# EAGLE library part ECM-B137 (library subieduino-lib)
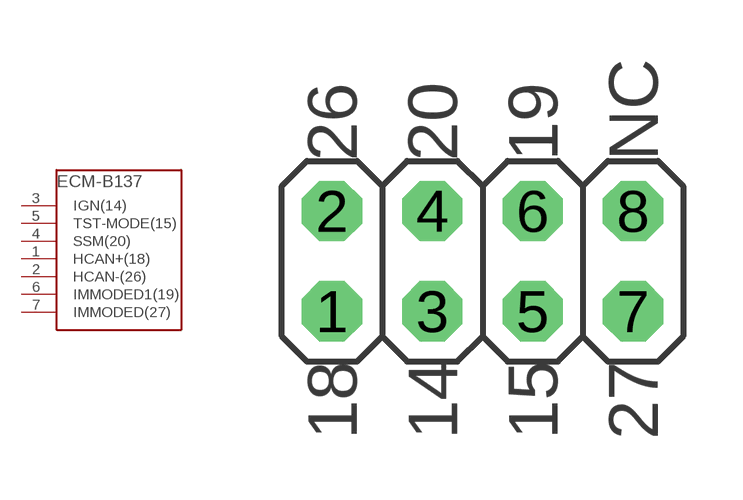
[diagram p0: symbol with the pads of ECM-B137; footprint ECM-B137]

Designator prefix CONN

## ECM-B137  [ECM-B137]
1  HCAN+(18)
2  HCAN-(26)
3  IGN(14)
4  SSM(20)
5  TST-MODE(15)
6  IMMODED1(19)
7  IMMODED(27)

## Footprint ECM-B137 (pad centres in mm)
PIN HEADER
drill 1.016 octagon: 1 -3.81,-1.27; 2 -3.81,1.27; 3 -1.27,-1.27; 4 -1.27,1.27; 5 1.27,-1.27; 6 1.27,1.27; 7 3.81,-1.27; 8 3.81,1.27